# EAGLE library part 8X8 (library jasons_stuff)
Sure Electronics 8x8 Bi Colour LED matrix
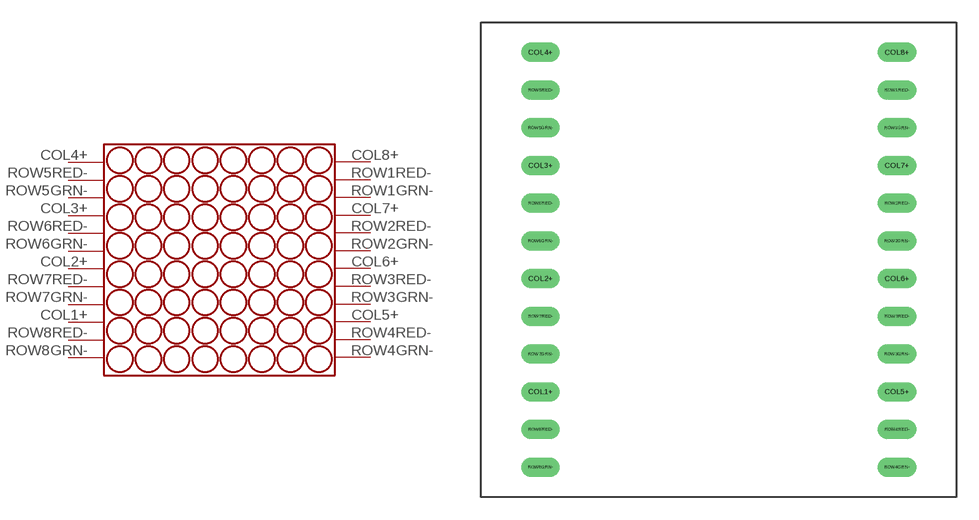
[diagram p0: symbol with the pads of SURE8X8; footprint SURE8X8]

Designator prefix -

## 8X8  [SURE8X8]
COL1+  COL1_AN  pas
COL2+  COL2_AN  pas
COL3+  COL3_AN  pas
COL4+  COL4_AN  pas
COL5+  COL5_AN  pas
COL6+  COL6_AN  pas
COL7+  COL7_AN  pas
COL8+  COL8_AN  pas
ROW1GRN-  GRN1_CA  pas
ROW1RED-  RED1_CA  pas
ROW2GRN-  GRN2_CA  pas
ROW2RED-  RED2_CA  pas
ROW3GRN-  GRN3_CA  pas
ROW3RED-  RED3_CA  pas
ROW4GRN-  GRN4_CA  pas
ROW4RED-  RED4_CA  pas
ROW5GRN-  GRN5_CA  pas
ROW5RED-  RED5_CA  pas
ROW6GRN-  GRN6_CA  pas
ROW6RED-  RED6_CA  pas
ROW7GRN-  GRN7_CA  pas
ROW7RED-  RED7_CA  pas
ROW8GRN-  GRN8_CA  pas
ROW8RED-  RED8_CA  pas

## Footprint SURE8X8 (pad centres in mm)
drill 0.8 long: COL1+ -12.002,-7.62; COL2+ -12.002,0; COL3+ -12.002,7.62; COL4+ -12.002,15.24; COL5+ 12.002,-7.62; COL6+ 12.002,0; COL7+ 12.002,7.62; COL8+ 12.002,15.24; ROW1GRN- 12.002,10.16; ROW1RED- 12.002,12.7; ROW2GRN- 12.002,2.54; ROW2RED- 12.002,5.08; ROW3GRN- 12.002,-5.08; ROW3RED- 12.002,-2.54; ROW4GRN- 12.002,-12.7; ROW4RED- 12.002,-10.16; ROW5GRN- -12.002,10.16; ROW5RED- -12.002,12.7; ROW6GRN- -12.002,2.54; ROW6RED- -12.002,5.08; ROW7GRN- -12.002,-5.08; ROW7RED- -12.002,-2.54; ROW8GRN- -12.002,-12.7; ROW8RED- -12.002,-10.16